# Altium footprint library BatteryHolder3AA.PcbLib: 2 footprints
Each footprint in its own frame and in the unit in brackets; x right, y up, seen from the top. Pads: shape width x height; smd on the part's side, far side on the other; paste and mask are expansions set on the pad; w line width, h text height; cw(c..) or ccw(c..) is an arc to the next point about the centre after c.
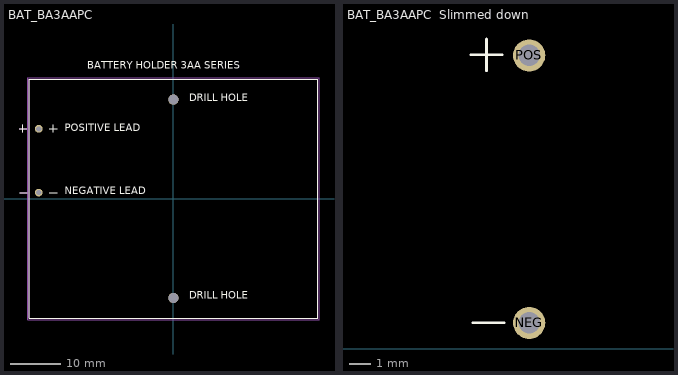
[diagram p0: the footprints below, top view; thin cyan lines are the x and y axes]

## BAT_BA3AAPC [mm] "Battery Holder for 3 AA cells in Series"
height 16.383
pads (4):
  round 1.53 hole 1.02: NEG(-26.82,1.22) POS(-26.82,13.92)
  round 2.03 hole 2.03 unplated: ""(0,-19.74) ""(0,19.74)
Top Overlay:
  lines w0.127: -30.74,13.95 -29.24,13.95 ; -30.64,1.22 -29.14,1.22 ; -29.99,13.2 -29.99,14.7 ; -23.679,1.22 -24.671,1.22 -23.171,1.22 ; -28.74,-23.815 28.74,-23.815 ; -28.74,-23.815 -28.74,23.815 ; -28.74,-23.815 -28.74,23.815 ; -28.74,-23.815 28.74,-23.815 ; -28.74,23.815 28.74,23.815 ; -28.74,23.815 28.74,23.815 ; 28.74,-23.815 28.74,23.815 ; 28.74,-23.815 28.74,23.815 ; -24.669,13.95 -23.169,13.95 -24.669,13.95 ; -23.919,13.2 -23.919,14.7 -23.919,13.2
  text "DRILL HOLE" at 3.175,18.951 h2.54
  text "POSITIVE LEAD" at -21.59,12.982 h2.54
  text "NEGATIVE LEAD" at -21.59,0.409 h2.54
  text "DRILL HOLE" at 3.175,-20.419 h2.54
  text "BATTERY HOLDER 3AA SERIES" at -17.145,25.4 h2.54
Mechanical 13:
  lines w0.127: -30.74,13.95 -29.24,13.95 ; -30.64,1.22 -29.14,1.22 ; -29.99,13.2 -29.99,14.7 ; -28.74,-23.815 -28.74,23.815 28.74,23.815 28.74,-23.815 -28.74,-23.815
Mechanical 15:
  lines w0.05: -28.99,-24.065 -28.99,24.065 28.99,24.065 28.99,-24.065 -28.99,-24.065

## BAT_BA3AAPC  Slimmed down [mm] "Battery Holder for 3 AA cells in Series"
height 16.383
pads (2):
  round 1.53 hole 1.02: NEG(-26.82,1.22) POS(-26.82,13.92)
Top Overlay:
  lines w0.127: -29.597,13.95 -28.097,13.95 -29.597,13.95 ; -29.497,1.22 -27.997,1.22 -29.497,1.22 ; -28.847,13.2 -28.847,14.7 -28.847,13.2